# Altium footprint library Filter.PcbLib: 20 footprints (part 1 of 2)
Each footprint in its own frame and in the unit in brackets; x right, y up, seen from the top. Pads: shape width x height; smd on the part's side, far side on the other; paste and mask are expansions set on the pad; w line width, h text height; cw(c..) or ccw(c..) is an arc to the next point about the centre after c.
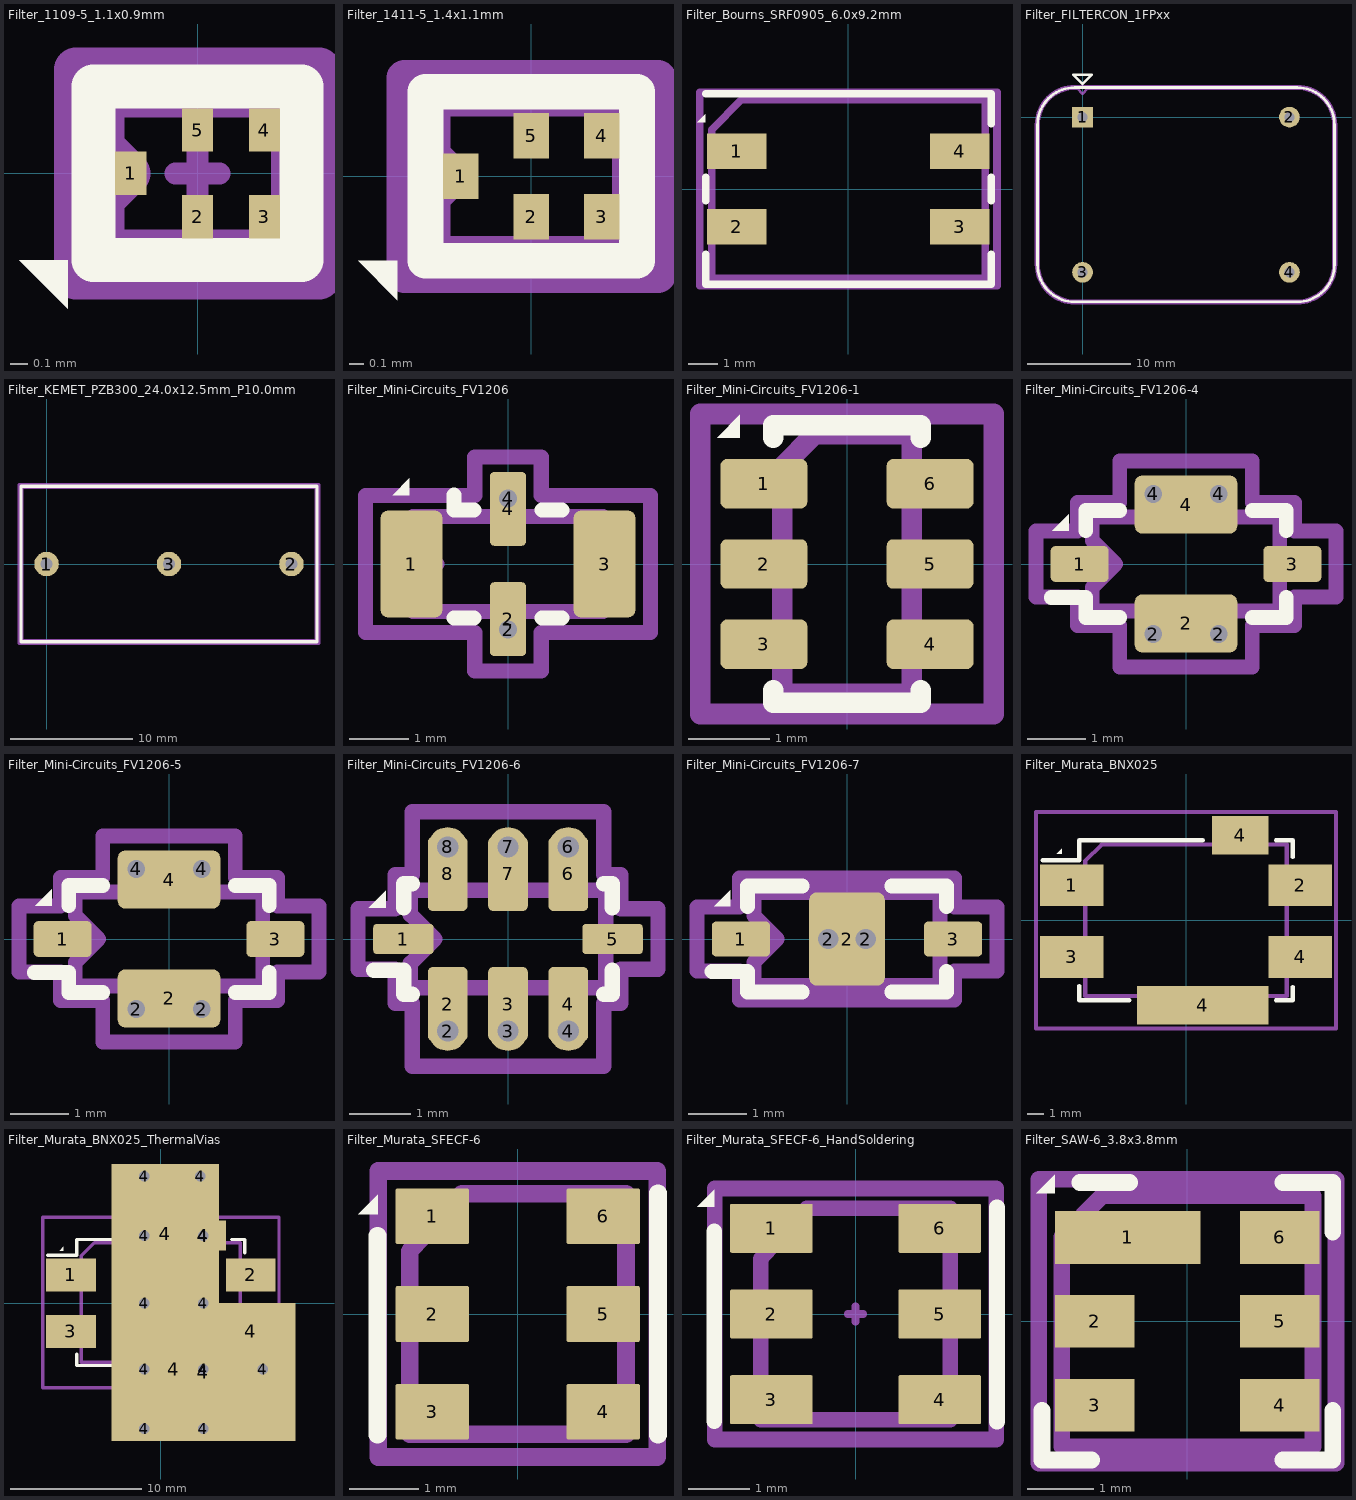
[diagram p0: the footprints below, top view; thin cyan lines are the x and y axes]

## Filter_1109-5_1.1x0.9mm [mm]
pads (5):
  rect 0.18x0.25 smd: 1(-0.385,0) 2(0,-0.25) 3(0.385,-0.25) 4(0.385,0.25) 5(0,0.25)
F.SilkS:
  region: -0.75,-0.78 -1.03,-0.5 -0.75,-0.5
  lines w0.254: -0.6,-0.5 0.6,-0.5 0.6,0.5 -0.6,0.5 -0.6,-0.5
Top Component Center:
  lines w0.127: -0.127,0 0.127,0 ; 0,-0.127 0,0.127
Top Assembly:
  lines w0.254: -0.55,-0.45 0.55,-0.45 0.55,0.45 -0.55,0.45 -0.55,0.15 -0.4,0 -0.55,-0.15 -0.55,-0.45
  text "'.Designator'" at -4.047,1.86 h1
Top Courtyard:
  lines w0.254: -0.7,-0.6 0.7,-0.6 0.7,0.6 -0.7,0.6 -0.7,-0.6
Top Designator:
  text ".Designator" at -7.768,0.631 h1.52

## Filter_1411-5_1.4x1.1mm [mm]
pads (5):
  rect 0.25x0.325 smd: 1(-0.5,0) 2(0,-0.288) 3(0.5,-0.288) 4(0.5,0.288) 5(0,0.288)
F.SilkS:
  region: -0.95,-0.88 -1.23,-0.6 -0.95,-0.6
  lines w0.254: -0.75,-0.6 0.75,-0.6 0.75,0.6 -0.75,0.6 -0.75,-0.6
Top Assembly:
  lines w0.254: -0.7,-0.55 0.7,-0.55 0.7,0.55 -0.7,0.55 -0.7,0.15 -0.55,0 -0.7,-0.15 -0.7,-0.55
  text "'.Designator'" at -4.047,1.86 h1
Top Courtyard:
  lines w0.254: -0.9,-0.7 0.9,-0.7 0.9,0.7 -0.9,0.7 -0.9,-0.7
Top Designator:
  text ".Designator" at -7.768,0.581 h1.52

## Filter_Bourns_SRF0905_6.0x9.2mm [mm]
pads (4):
  rect 2x1.2 smd: 1(-3.75,1.27) 2(-3.75,-1.27) 3(3.75,-1.27) 4(3.75,1.27)
F.SilkS:
  region: -4.81,2.24 -5.09,2.24 -4.81,2.52
  lines w0.254: -4.8,-2.2 -4.8,-3.2 4.8,-3.2 4.8,-2.2 ; -4.8,-0.4 -4.8,0.4 ; -4.8,3.2 4.8,3.2 4.8,2.2 ; 4.8,-0.4 4.8,0.4
Top Assembly:
  lines w0.254: -4.6,-3 4.6,-3 4.6,3 -3.6,3 -4.6,2 -4.6,-3
  text "'.Designator'" at -4.047,-0.84 h1
Top Courtyard:
  lines w0.254: -5,-3.25 5,-3.25 5,3.25 -5,3.25 -5,-3.25
Top Designator:
  text ".Designator" at -7.618,-0.508 h1.52

## Filter_FILTERCON_1FPxx [mm]
pads (4):
  rect 2x2 hole 1: 1(0,0)
  round 2 hole 1: 2(20,0) 3(0,-15) 4(20,-15)
F.SilkS:
  lines w0.254: -4.36,-14.25 ccw(c-0.75,-14.25) -0.75,-17.86 20.75,-17.86 ccw(c20.75,-14.25) 24.36,-14.25 24.36,-0.75 ccw(c20.75,-0.75) 20.75,2.86 -0.75,2.86 ccw(c-0.75,-0.75) -4.36,-0.75 -4.36,-14.25 ; -0.9,4.1 0,3.2 0.9,4.1 -0.9,4.1
Top Assembly:
  lines w0.254: -4.25,-14.25 ccw(c-0.75,-14.25) -0.75,-17.75 20.75,-17.75 ccw(c20.75,-14.25) 24.25,-14.25 24.25,-0.75 ccw(c20.75,-0.75) 20.75,2.75 0.5,2.75 0,2.25 -0.5,2.75 -0.75,2.75 ccw(c-0.75,-0.75) -4.25,-0.75 -4.25,-14.25
  text "'.Designator'" at 5.953,-8.34 h1
Top Courtyard:
  lines w0.254: -4.5,-14.25 ccw(c-0.75,-14.25) -0.75,-18 20.75,-18 ccw(c20.75,-14.25) 24.5,-14.25 24.5,-0.75 ccw(c20.75,-0.75) 20.75,3 -0.75,3 ccw(c-0.75,-0.75) -4.5,-0.75 -4.5,-14.25
Top Designator:
  text ".Designator" at 2.382,-7.458 h1.52

## Filter_KEMET_PZB300_24.0x12.5mm_P10.0mm [mm]
pads (3):
  round 2 hole 1: 1(0,0) 2(20,0) 3(10,0)
F.SilkS:
  lines w0.254: -2.1,-6.35 22.1,-6.35 22.1,6.35 -2.1,6.35 -2.1,-6.35
Top Assembly:
  lines w0.254: -2,-6.25 22,-6.25 22,6.25 -2,6.25 -2,-6.25
  text "'.Designator'" at 5.953,-0.84 h1
Top Courtyard:
  lines w0.254: -2.25,-6.5 22.25,-6.5 22.25,6.5 -2.25,6.5 -2.25,-6.5
Top Designator:
  text ".Designator" at 2.382,-0.508 h1.52

## Filter_Mini-Circuits_FV1206 [mm]
pads (6):
  rrect24% 1.04x1.8 smd: 1(-1.625,0) 3(1.625,0)
  round 0.61 hole 0.3: 2(0,-1.105) 4(0,1.105)
  rrect25% 0.61x1.245 smd: 2(0,-0.927) 4(0,0.927)
F.SilkS:
  region: -1.66,1.16 -1.94,1.16 -1.66,1.44
  lines w0.254: -0.91,-0.91 -0.57,-0.91 ; -0.91,1.16 -0.91,0.91 -0.57,0.91 ; 0.57,-0.91 0.91,-0.91 ; 0.57,0.91 0.91,0.91
Top Assembly:
  lines w0.254: -1.6,-0.8 1.6,-0.8 1.6,0.8 -1.6,0.8 -1.6,0.4 -1.2,0 -1.6,-0.4 -1.6,-0.8
  text "'.Designator'" at -3.237,-0.672 h0.8
Top Courtyard:
  lines w0.254: -2.4,-1.15 -0.56,-1.15 -0.56,-1.8 0.56,-1.8 0.56,-1.15 2.4,-1.15 2.4,1.15 0.56,1.15 0.56,1.8 -0.56,1.8 -0.56,1.15 -2.4,1.15 -2.4,-1.15
Top Designator:
  text ".Designator" at -7.738,-0.508 h1.52

## Filter_Mini-Circuits_FV1206-1 [mm]
pads (6):
  rrect25% 1.07x0.61 smd: 1(-1.025,0.99) 2(-1.025,0) 3(-1.025,-0.99) 4(1.025,-0.99) 5(1.025,0) 6(1.025,0.99)
F.SilkS:
  region: -1.32,1.56 -1.6,1.56 -1.32,1.84
  lines w0.254: -0.91,-1.56 -0.91,-1.71 0.91,-1.71 0.91,-1.56 ; -0.91,1.56 -0.91,1.71 0.91,1.71 0.91,1.56
Top Assembly:
  lines w0.254: -0.8,-1.6 0.8,-1.6 0.8,1.6 -0.4,1.6 -0.8,1.2 -0.8,-1.6
  text "'.Designator'" at 0.672,-3.237 h0.8
Top Courtyard:
  lines w0.254: -1.81,-1.85 1.81,-1.85 1.81,1.85 -1.81,1.85 -1.81,-1.85
Top Designator:
  text ".Designator" at -7.618,-0.628 h1.52

## Filter_Mini-Circuits_FV1206-4 [mm]
pads (8):
  rrect25% 0.99x0.61 smd: 1(-1.815,0) 3(1.815,0)
  round 0.63 hole 0.3: 2(-0.56,-1.195) 2(0.56,-1.195) 4(-0.56,1.195) 4(0.56,1.195)
  rrect25% 1.75x0.99 smd: 2(0,-1.015) 4(0,1.015)
F.SilkS:
  region: -2.005,0.57 -2.285,0.57 -2.005,0.85
  lines w0.254: -2.3,-0.57 -1.71,-0.57 -1.71,-0.91 -1.13,-0.91 ; -1.71,0.57 -1.71,0.91 -1.13,0.91 ; 1.13,-0.91 1.71,-0.91 1.71,-0.57 ; 1.13,0.91 1.71,0.91 1.71,0.57
Top Assembly:
  lines w0.254: -1.6,-0.8 1.6,-0.8 1.6,0.8 -1.6,0.8 -1.6,0.4 -1.2,0 -1.6,-0.4 -1.6,-0.8
  text "'.Designator'" at -3.237,-0.672 h0.8
Top Courtyard:
  lines w0.254: -2.56,-0.56 -1.85,-0.56 -1.85,-1.05 -1.13,-1.05 -1.13,-1.76 1.13,-1.76 1.13,-1.05 1.85,-1.05 1.85,-0.56 2.56,-0.56 2.56,0.56 1.85,0.56 1.85,1.05 1.13,1.05 1.13,1.76 -1.13,1.76 -1.13,1.05 -1.85,1.05 -1.85,0.56 -2.56,0.56 -2.56,-0.56
Top Designator:
  text ".Designator" at -7.738,-0.508 h1.52

## Filter_Mini-Circuits_FV1206-5 [mm]
pads (8):
  rrect25% 0.99x0.61 smd: 1(-1.815,0) 3(1.815,0)
  round 0.63 hole 0.3: 2(-0.56,-1.195) 2(0.56,-1.195) 4(-0.56,1.195) 4(0.56,1.195)
  rrect25% 1.75x0.99 smd: 2(0,-1.015) 4(0,1.015)
F.SilkS:
  region: -2.005,0.57 -2.285,0.57 -2.005,0.85
  lines w0.254: -2.3,-0.57 -1.71,-0.57 -1.71,-0.91 -1.13,-0.91 ; -1.71,0.57 -1.71,0.91 -1.13,0.91 ; 1.13,-0.91 1.71,-0.91 1.71,-0.57 ; 1.13,0.91 1.71,0.91 1.71,0.57
Top Assembly:
  lines w0.254: -1.6,-0.8 1.6,-0.8 1.6,0.8 -1.6,0.8 -1.6,0.4 -1.2,0 -1.6,-0.4 -1.6,-0.8
  text "'.Designator'" at -3.237,-0.672 h0.8
Top Courtyard:
  lines w0.254: -2.56,-0.56 -1.85,-0.56 -1.85,-1.05 -1.13,-1.05 -1.13,-1.76 1.13,-1.76 1.13,-1.05 1.85,-1.05 1.85,-0.56 2.56,-0.56 2.56,0.56 1.85,0.56 1.85,1.05 1.13,1.05 1.13,1.76 -1.13,1.76 -1.13,1.05 -1.85,1.05 -1.85,0.56 -2.56,0.56 -2.56,-0.56
Top Designator:
  text ".Designator" at -7.738,-0.508 h1.52

## Filter_Mini-Circuits_FV1206-6 [mm]
pads (14):
  rrect25% 0.99x0.5 smd: 1(-1.715,0) 5(1.715,0)
  round 0.65 hole 0.35: 2(-0.99,-1.51) 3(0,-1.51) 4(0.99,-1.51) 6(0.99,1.51) 7(0,1.51) 8(-0.99,1.51)
  rrect25% 0.65x1.212 smd: 2(-0.99,-1.066) 3(0,-1.066) 4(0.99,-1.066) 6(0.99,1.066) 7(0,1.066) 8(-0.99,1.066)
F.SilkS:
  region: -2.005,0.51 -2.285,0.51 -2.005,0.79
  lines w0.254: -2.2,-0.51 -1.71,-0.51 -1.71,-0.91 -1.57,-0.91 ; -1.71,0.51 -1.71,0.91 -1.57,0.91 ; 1.57,-0.91 1.71,-0.91 1.71,-0.51 ; 1.57,0.91 1.71,0.91 1.71,0.51
Top Assembly:
  lines w0.254: -1.6,-0.8 1.6,-0.8 1.6,0.8 -1.6,0.8 -1.6,0.4 -1.2,0 -1.6,-0.4 -1.6,-0.8
  text "'.Designator'" at -3.237,-0.672 h0.8
Top Courtyard:
  lines w0.254: -2.46,-0.5 -1.85,-0.5 -1.85,-1.05 -1.57,-1.05 -1.57,-2.09 1.57,-2.09 1.57,-1.05 1.85,-1.05 1.85,-0.5 2.46,-0.5 2.46,0.5 1.85,0.5 1.85,1.05 1.57,1.05 1.57,2.09 -1.57,2.09 -1.57,1.05 -1.85,1.05 -1.85,0.5 -2.46,0.5 -2.46,-0.5
Top Designator:
  text ".Designator" at -7.738,-0.508 h1.52

## Filter_Mini-Circuits_FV1206-7 [mm]
pads (5):
  rrect25% 1x0.6 smd: 1(-1.825,0) 3(1.825,0)
  round 0.65 hole 0.35: 2(-0.325,0) 2(0.325,0)
  rrect19% 1.3x1.6 smd: 2(0,0)
F.SilkS:
  region: -2.005,0.56 -2.285,0.56 -2.005,0.84
  lines w0.254: -2.32,-0.56 -1.71,-0.56 -1.71,-0.91 -0.77,-0.91 ; -1.71,0.56 -1.71,0.91 -0.77,0.91 ; 0.77,-0.91 1.71,-0.91 1.71,-0.56 ; 0.77,0.91 1.71,0.91 1.71,0.56
Top Assembly:
  lines w0.254: -1.6,-0.8 1.6,-0.8 1.6,0.8 -1.6,0.8 -1.6,0.4 -1.2,0 -1.6,-0.4 -1.6,-0.8
  text "'.Designator'" at -3.237,-0.672 h0.8
Top Courtyard:
  lines w0.254: -2.58,-0.55 -1.85,-0.55 -1.85,-1.05 1.85,-1.05 1.85,-0.55 2.58,-0.55 2.58,0.55 1.85,0.55 1.85,1.05 -1.85,1.05 -1.85,0.55 -2.58,0.55 -2.58,-0.55
Top Designator:
  text ".Designator" at -7.738,-0.508 h1.52

## Filter_Murata_BNX025 [mm]
pads (6):
  rect 3.8x2.5 smd: 1(-6.85,2.1) 2(6.85,2.1) 3(-6.85,-2.2) 4(6.85,-2.2)
  rect 7.9x2.3 smd: 4(1,-5.1)
  rect 3.4x2.3 smd: 4(3.25,5.1)
F.SilkS:
  region: -7.465,4 -7.745,4 -7.465,4.28
  lines w0.254: -8.6,3.6 -6.4,3.6 -6.4,4.8 1,4.8 ; -6.4,-3.95 -6.4,-4.8 -3.4,-4.8 ; 5.4,-4.8 6.4,-4.8 6.4,-4 ; 5.4,4.8 6.4,4.8 6.4,3.8
Top Assembly:
  lines w0.254: -6.05,-4.55 6.05,-4.55 6.05,4.55 -5.05,4.55 -6.05,3.55 -6.05,-4.55
  text "'.Designator'" at -3.247,-0.79 h1
Top Courtyard:
  lines w0.254: -9,-6.5 9,-6.5 9,6.5 -9,6.5 -9,-6.5
Top Designator:
  text ".Designator" at -7.618,-0.508 h1.52

## Filter_Murata_BNX025_ThermalVias [mm]
pads (19):
  rect 3.8x2.5 smd: 1(-6.85,2.15) 2(6.85,2.15) 3(-6.85,-2.15) 4(6.85,-2.15)
  round 1.524 hole 0.8: 4(-1.25,-9.55) 4(-1.25,-5.05) 4(-1.25,0) 4(-1.25,5.15) 4(-1.25,9.65) 4(3,9.65) 4(3.25,-9.55) 4(3.25,-5.05) 4(3.25,0) 4(3.25,5.15) 4(7.75,-5.05)
  rect 8.2x10.6 smd: 4(0.35,5.3)
  rect 7.9x2.3 smd: 4(1,-5.05)
  rect 14x10.5 smd: 4(3.25,-5.25)
  rect 3.4x2.3 smd: 4(3.25,5.15)
F.SilkS:
  region: -7.415,4 -7.695,4 -7.415,4.28
  lines w0.254: -8.6,3.65 -6.4,3.65 -6.4,4.85 -2.25,4.85 ; -6.4,-3.9 -6.4,-4.75 -3.4,-4.75 ; -0.3,4.85 1.3,4.85 ; 5.4,-4.75 6.4,-4.75 6.4,-3.95 ; 5.4,4.85 6.4,4.85 6.4,3.85
Top Assembly:
  lines w0.254: -6.05,-4.5 6.05,-4.5 6.05,4.6 -5.05,4.6 -6.05,3.6 -6.05,-4.5
  text "'.Designator'" at -3.247,-0.74 h1
Top Courtyard:
  lines w0.254: -9,-6.45 9,-6.45 9,6.55 -9,6.55 -9,-6.45
Top Designator:
  text ".Designator" at -7.005,-0.458 h1.52

## Filter_Murata_SFECF-6 [mm]
pads (6):
  rrect6% 1.05x0.8 smd: 1(-1.225,1.4) 2(-1.225,0) 3(-1.225,-1.4) 4(1.225,-1.4) 5(1.225,0) 6(1.225,1.4)
F.SilkS:
  region: -2.01,1.43 -2.29,1.43 -2.01,1.71
  lines w0.254: -2.01,-1.73 -2.01,1.12 ; 2.01,-1.73 2.01,1.73
Top Assembly:
  lines w0.254: -1.55,-1.725 1.55,-1.725 1.55,1.725 -0.8,1.725 -1.55,0.9 -1.55,-1.725
  text "'.Designator'" at 0.672,-3.237 h0.8
Top Courtyard:
  lines w0.254: -2,-2.05 2,-2.05 2,2.05 -2,2.05 -2,-2.05
Top Designator:
  text ".Designator" at -7.694,-0.628 h1.52

## Filter_Murata_SFECF-6_HandSoldering [mm]
pads (6):
  rrect6% 1.35x0.8 smd: 1(-1.375,1.4) 2(-1.375,0) 3(-1.375,-1.4) 4(1.375,-1.4) 5(1.375,0) 6(1.375,1.4)
F.SilkS:
  region: -2.31,1.75 -2.59,1.75 -2.31,2.03
  lines w0.254: -2.31,-1.75 -2.31,1.35 ; 2.31,-1.76 2.31,1.74
Top Component Center:
  lines w0.127: -0.127,0 0.127,0 ; 0,-0.127 0,0.127
Top Assembly:
  lines w0.254: -1.55,-1.725 1.55,-1.725 1.55,1.725 -0.8,1.725 -1.55,0.9 -1.55,-1.725
  text "'.Designator'" at 0.672,-3.237 h0.8
Top Courtyard:
  lines w0.254: -2.3,-2.05 2.3,-2.05 2.3,2.05 -2.3,2.05 -2.3,-2.05
Top Designator:
  text ".Designator" at -7.694,-0.628 h1.52

## Filter_SAW-6_3.8x3.8mm [mm]
pads (6):
  rect 2.2x0.8 smd: 1(-0.9,1.27)
  rect 1.2x0.8 smd: 2(-1.4,0) 3(-1.4,-1.27) 4(1.4,-1.27) 5(1.4,0) 6(1.4,1.27)
F.SilkS:
  region: -2.01,1.94 -2.29,1.94 -2.01,2.22
  lines w0.254: -2.2,-1.35 -2.2,-2.1 -1.45,-2.1 ; -1.625,2.1 -0.875,2.1 ; 1.45,-2.1 2.2,-2.1 2.2,-1.35 ; 1.45,2.1 2.2,2.1 2.2,1.35
Top Assembly:
  lines w0.254: -1.9,-1.9 1.9,-1.9 1.9,1.9 -1.28,1.9 -1.9,1.28 -1.9,-1.9
  text "'.Designator'" at -4.067,-0.85 h1
Top Courtyard:
  lines w0.254: -2.25,-2.15 2.25,-2.15 2.25,2.15 -2.25,2.15 -2.25,-2.15
Top Designator:
  text ".Designator" at -7.788,-0.508 h1.52